# Altium footprint library Connectors.PcbLib: 81 footprints (part 6 of 6)
Each footprint in its own frame and in the unit in brackets; x right, y up, seen from the top. Pads: shape width x height; smd on the part's side, far side on the other; paste and mask are expansions set on the pad; w line width, h text height; cw(c..) or ccw(c..) is an arc to the next point about the centre after c.
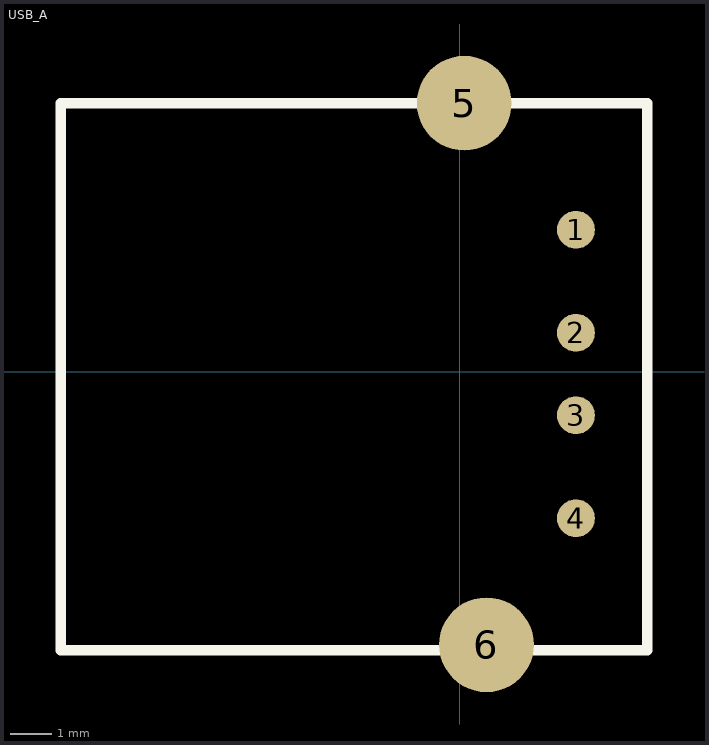
[diagram p5: the footprint, top view; thin cyan lines are the x and y axes]

## USB_A [mm]
pads (6):
  round 0.92 smd: 1(2.819,3.449) 2(2.819,0.949) 3(2.819,-1.051) 4(2.819,-3.551)
  round 2.3 smd: 5(0.109,6.519) 6(0.649,-6.621)
Top Overlay:
  lines w0.254: -9.677,-6.756 4.547,-6.756 4.547,6.519 -9.677,6.519 -9.677,-6.756